# Altium schematic symbol library 主机控制板.SCHLIB: 27 symbols
Pins are listed as number, name and electrical type; pins without a type are passive.

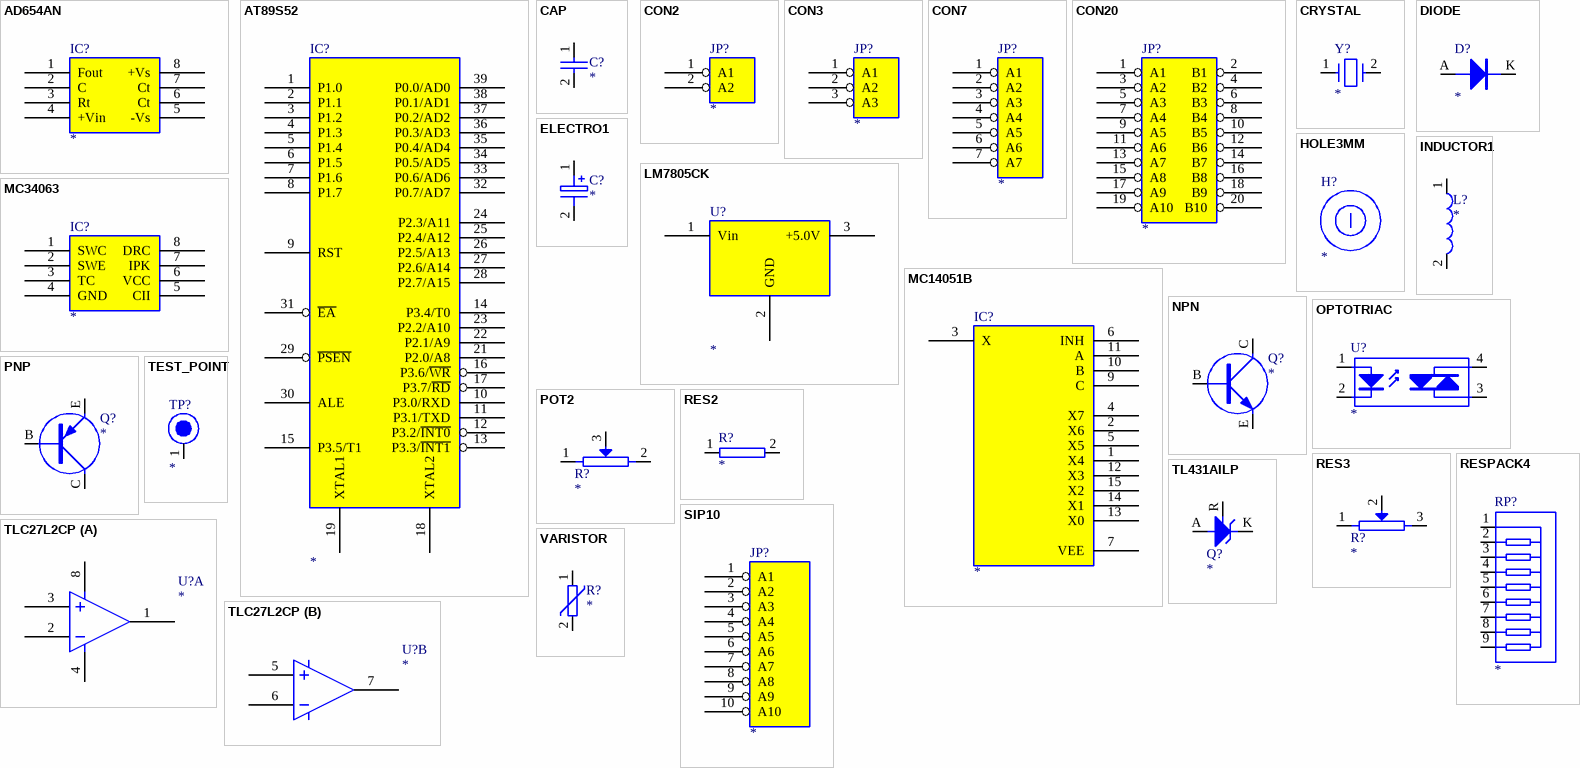
[diagram p0: symbols AD654AN to VARISTOR]

## AD654AN
designator IC?
footprint DIP8
pins: 1 Fout, 2 C, 3 Rt, 4 +Vin, 5 -Vs, 6 Ct, 7 Ct, 8 +Vs

## AT89S52
designator IC?
footprint DIP40
pins: 1 P1.0, 2 P1.1, 3 P1.2, 4 P1.3, 5 P1.4, 6 P1.5, 7 P1.6, 8 P1.7, 9 RST, 10 P3.0/RXD, 11 P3.1/TXD, 12 P3.2/~{INT0}, 13 P3.3/~{INT1}, 14 P3.4/T0, 15 P3.5/T1, 16 P3.6/~{WR}, 17 P3.7/~{RD}, 18 XTAL2, 19 XTAL1, 20 GND (power) hidden to GND, 21 P2.0/A8, 22 P2.1/A9, 23 P2.2/A10, 24 P2.3/A11, 25 P2.4/A12, 26 P2.5/A13, 27 P2.6/A14, 28 P2.7/A15, 29 ~{PSEN} , 30 ALE, 31 ~{EA}, 32 P0.7/AD7, 33 P0.6/AD6, 34 P0.5/AD5, 35 P0.4/AD4, 36 P0.3/AD3, 37 P0.2/AD2, 38 P0.1/AD1, 39 P0.0/AD0, 40 +5.0V (power) hidden to +5.0V

## CAP
designator C?
footprint RAD0.1
footprint RAD0.2
footprint RAD0.3
pins: 1, 2

## CON2
designator JP?
footprint ISC2
footprint HEADER1X2A
footprint HEADER1X2B
pins: 1 A1, 2 A2

## CON3
designator JP?
footprint PIN3
footprint SIP3
footprint HEADER1X3
pins: 1 A1, 2 A2, 3 A3

## CON7
designator JP?
footprint HEADER1x7
pins: 1 A1, 2 A2, 3 A3, 4 A4, 5 A5, 6 A6, 7 A7

## CON20
designator JP?
footprint IDC20
pins: 1 A1, 2 B1, 3 A2, 4 B2, 5 A3, 6 B3, 7 A4, 8 B4, 9 A5, 10 B5, 11 A6, 12 B6, 13 A7, 14 B7, 15 A8, 16 B8, 17 A9, 18 B9, 19 A10, 20 B10

## CRYSTAL
designator Y?
footprint XTAL1
pins: 1, 2

## DIODE
designator D?
footprint DIODE0.4
pins: A, K

## ELECTRO1
designator C?
footprint RB.1/.2
footprint RB.2/.4
footprint RB.3/.6
pins: 1, 2

## HOLE3MM
designator H?
footprint HOLE3MM

## INDUCTOR1
designator L?
footprint INDUCTOR0.2
footprint INDUCTOR0.4
pins: 1, 2

## LM7805CK
designator U?
footprint TO-220
pins: 1 Vin, 2 GND, 3 +5.0V

## MC14051B
designator IC?
footprint DIP16
pins: 1 X4, 2 X6, 3 X, 4 X7, 5 X5, 6 INH, 7 VEE, 8 GND (power) hidden to GND, 9 C, 10 B, 11 A, 12 X3, 13 X0, 14 X1, 15 X2, 16 +5.0V (power) hidden to +5.0V

## MC34063
designator IC?
footprint DIP8
pins: 1 SWC, 2 SWE, 3 TC, 4 GND, 5 CII, 6 VCC, 7 IPK, 8 DRC

## NPN
designator Q?
footprint TO-92A
pins: B, C, E

## OPTOTRIAC
designator U?
footprint SPST-REALY
pins: 1, 2, 3, 4

## PNP
designator Q?
footprint TO-92A
pins: B, C, E

## POT2
designator R?
footprint VR5
pins: 1, 2, 3

## RES2
designator R?
footprint AXIAL0.2
footprint AXIAL0.3
footprint AXIAL0.4
footprint AXIAL0.5
pins: 1, 2

## RES3
designator R?
footprint VR5
pins: 1, 2, 3

## RESPACK4
designator RP?
footprint SIP9
pins: 1, 2, 3, 4, 5, 6, 7, 8, 9

## SIP10
designator JP?
footprint HEADER1x10
pins: 1 A1, 2 A2, 3 A3, 4 A4, 5 A5, 6 A6, 7 A7, 8 A8, 9 A9, 10 A10

## TEST_POINT
designator TP?
pins: 1

## TL431AILP
designator Q?
footprint TO-92B
pins: A, K, R

## TLC27L2CP
designator U?
footprint DIP8
part A pins: 1, 2, 3, 4, 8
part B pins: 5, 6, 7

## VARISTOR
designator R?
footprint RV0.3
pins: 1, 2